# Altium schematic symbol library SN74LVC2G240DCTR.SchLib: 1 symbol
Pins are listed as number, name and electrical type; pins without a type are passive.

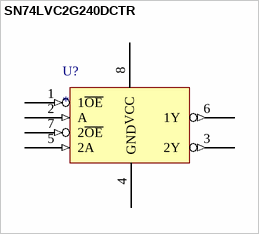
[diagram p0: symbol SN74LVC2G240DCTR]

## SN74LVC2G240DCTR
designator U?
Dual Buffer/Driver with 3-state Outputs
pins: 1 1~{OE} (in), 2 A (in), 3 2Y (out), 4 GND (power), 5 2A (in), 6 1Y (out), 7 2~{OE} (in), 8 VCC (power)